# Altium schematic symbol library FMH01-FSB300K6M.SchLib: 1 symbol
Pins are listed as number, name and electrical type; pins without a type are passive.

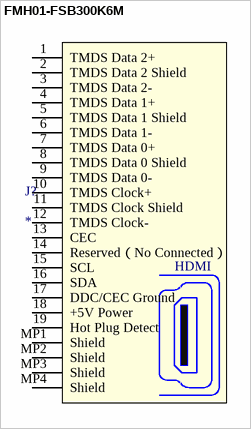
[diagram p0: symbol FMH01-FSB300K6M]

## FMH01-FSB300K6M
designator J?
MINI HDMI Horizontal SMT Type C  19 Pins Size 10.5x2.5mm
pins: 1 TMDS Data 2+, 2 TMDS Data 2 Shield, 3 TMDS Data 2-, 4 TMDS Data 1+, 5 TMDS Data 1 Shield, 6 TMDS Data 1-, 7 TMDS Data 0+, 8 TMDS Data 0 Shield, 9 TMDS Data 0-, 10 TMDS Clock+, 11 TMDS Clock Shield, 12 TMDS Clock-, 13 CEC, 14 Reserved（No Connected）, 15 SCL, 16 SDA, 17 DDC/CEC Ground, 18 +5V Power, 19 Hot Plug Detect , MP1 Shield, MP2 Shield, MP3 Shield, MP4 Shield
text: HDMI